# EAGLE library part FT221X (library FT221X)
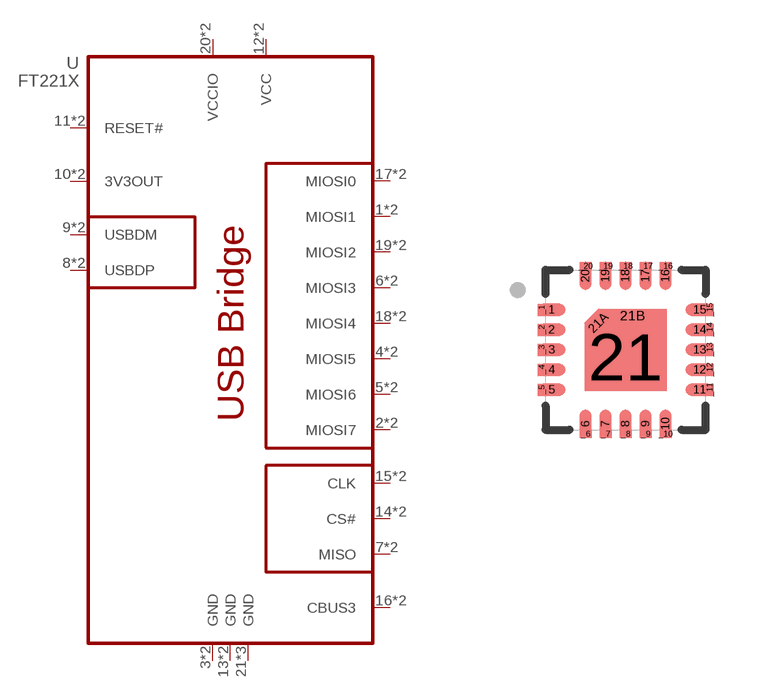
[diagram p0: symbol with the pads of QFN-20; footprint QFN-20]

Designator prefix U

## FT221XQ  [QFN-20]
1  MIOSI1  nc
2  MIOSI7  nc
3  GND
4  MIOSI5  nc
5  MIOSI6  nc
6  MIOSI3
7  MISO
8  USBDP
9  USBDM
10  3V3OUT
11  RESET#
12  VCC
13  GND
14  CS#
15  CLK
16  CBUS3
17  MIOSI0
18  MIOSI4
19  MIOSI2
20  VCCIO
21  GND
21A  GND
21B  GND
_1  MIOSI1  nc
_2  MIOSI7  nc
_3  GND
_4  MIOSI5  nc
_5  MIOSI6  nc
_6  MIOSI3
_7  MISO
_8  USBDP
_9  USBDM
_10  3V3OUT
_11  RESET#
_12  VCC
_13  GND
_14  CS#
_15  CLK
_16  CBUS3
_17  MIOSI0
_18  MIOSI4
_19  MIOSI2
_20  VCCIO

## Footprint QFN-20 (pad centres in mm)
smd 0.7 x 0.3: 1 -1.85,1; 2 -1.85,0.5; 3 -1.85,0; 4 -1.85,-0.5; 5 -1.85,-1; 11 1.85,-1; 12 1.85,-0.5; 13 1.85,0; 14 1.85,0.5; 15 1.85,1
smd 0.3 x 0.7: 6 -1,-1.85; 7 -0.5,-1.85; 8 0,-1.85; 9 0.5,-1.85; 10 1,-1.85; 16 1,1.85; 17 0.5,1.85; 18 0,1.85; 19 -0.5,1.85; 20 -1,1.85
smd 2.05 x 1.7: 21 0,-0.175
smd 0.495 x 0.495 rotated 45: 21A -0.675,0.675
smd 1.7 x 0.35: 21B 0.175,0.85
smd 0.2 x 0.3: _1 -2.1,1; _2 -2.1,0.5; _3 -2.1,0; _4 -2.1,-0.5; _5 -2.1,-1; _11 2.1,-1; _12 2.1,-0.5; _13 2.1,0; _14 2.1,0.5; _15 2.1,1
smd 0.3 x 0.2: _6 -1,-2.1; _7 -0.5,-2.1; _8 0,-2.1; _9 0.5,-2.1; _10 1,-2.1; _16 1,2.1; _17 0.5,2.1; _18 0,2.1; _19 -0.5,2.1; _20 -1,2.1